# Altium footprint library BUCKCONVERTER-V1L11.PcbLib: 35 footprints (part 2 of 3)
Each footprint in its own frame and in the unit in brackets; x right, y up, seen from the top. Pads: shape width x height; smd on the part's side, far side on the other; paste and mask are expansions set on the pad; w line width, h text height; cw(c..) or ccw(c..) is an arc to the next point about the centre after c.
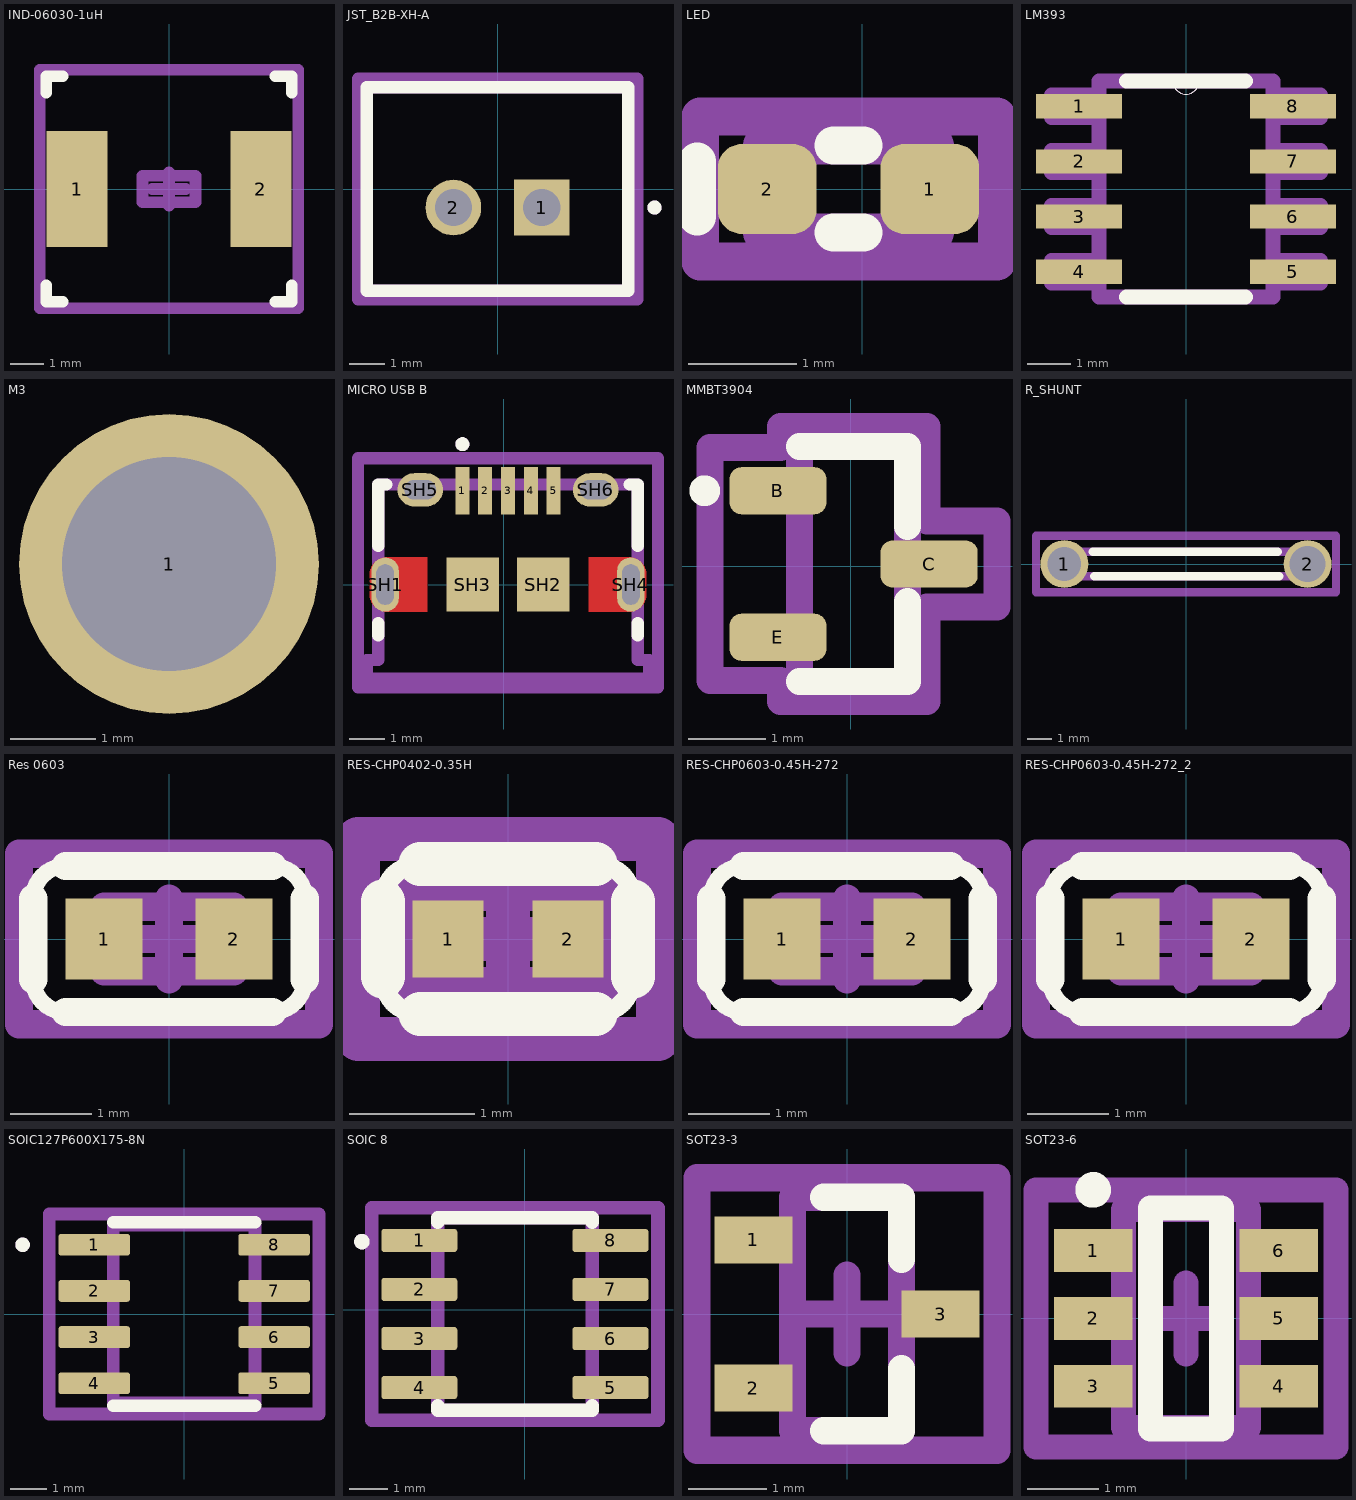
[diagram p1: the footprints below, top view; thin cyan lines are the x and y axes]

## IND-06030-1uH [mm]
pads (2):
  rect 1.85x3.5 smd: 1(-2.775,0) 2(2.775,0)
Top Overlay:
  lines w0.35: -3.7,-2.9 -3.7,-3.4 -3.2,-3.4 ; -3.7,2.9 -3.7,3.4 -3.2,3.4 ; 3.2,-3.4 3.7,-3.4 3.7,-2.9 ; 3.2,3.4 3.7,3.4 3.7,2.9
Top Courtyard:
  lines w0.35: -0.5,0 0.5,0 ; 0,-0.5 0,0.5 ; -3.9,-3.6 -3.9,3.6 3.9,3.6 3.9,-3.6 -3.9,-3.6
Top Value:
  text "'.Comment'" at -3.089,-0.4 h0.8
Top Assembly:
  text "'.Designator'" at -3.414,-0.266 h0.8
Mechanical 20:
  lines w0.35: -0.8,-0.4 0.8,-0.4 0.8,0.4 -0.8,0.4 -0.8,-0.4
  text "'.Designator'" at -3.414,-0.266 h0.8
3D body "IND-MOI0630-1R0.STEP": height 3.01, standoff -0.05, extent -3.65,-3.3 3.65,3.3

## JST_B2B-XH-A [mm]
height 7
pads (2):
  rect 1.575x1.575 / inner round 1.575 / far side rect 1.575x1.575 hole 1.05: 1(1.25,-0.525)
  round 1.575 hole 1.05: 2(-1.25,-0.525)
Top Overlay:
  circle w0.2: c4.44,-0.525 r0.1
  lines w0.35: -3.7,-2.875 -3.7,2.875 3.7,2.875 3.7,-2.875 -3.7,-2.875
Mechanical 13:
  circle w0.2: c4.44,-0.525 r0.1
  lines w0.35: -3.7,-2.875 -3.7,2.875 3.7,2.875 3.7,-2.875 -3.7,-2.875
Mechanical 15:
  lines w0.35: -3.95,-3.125 3.95,-3.125 3.95,3.125 -3.95,3.125 -3.95,-3.125

## LED [mm]
pads (2):
  rrect53% 0.91x0.83 smd: 1(0.623,0) 2(-0.877,0)
Top Overlay:
  lines w0.35: -1.524,-0.254 -1.524,0.254 ; -0.267,-0.4 0.013,-0.4 ; -0.267,0.4 0.013,0.4
Mechanical 13:
  lines w0.35: -0.927,-0.4 0.673,-0.4 0.673,0.4 -0.927,0.4 -0.927,-0.4
Mechanical 15:
  lines w0.35: -1.497,-0.67 1.243,-0.67 1.243,0.67 -1.497,0.67 -1.497,-0.67
3D body "step_temp.STEP": height 0.7, standoff 0, extent -0.927,-0.4 0.673,0.4

## LM393 [mil]
pads (8):
  rect 78x22 smd: 1(-97,75) 2(-97,25) 3(-97,-25) 4(-97,-75) 5(97,-75) 6(97,-25) 7(97,25) 8(97,75)
Top Overlay:
  lines w0: -12,98 ccw(c0,98) 12,98
  lines w13.78: -54,-98 54,-98 ; -54,98 -12,98 12,98 54,98
Mechanical 13:
  lines w0: -12,98 ccw(c0,98) 12,98
  lines w13.78: -122,-85 -79,-85 -79,-65 -122,-65 -122,-85 ; -122,-35 -79,-35 -79,-15 -122,-15 -122,-35 ; -122,15 -79,15 -79,35 -122,35 -122,15 ; -122,65 -79,65 -79,85 -122,85 -122,65 ; -79,-98 -79,98 -12,98 12,98 79,98 79,-98 -79,-98 ; 79,-85 122,-85 122,-65 79,-65 79,-85 ; 79,-35 122,-35 122,-15 79,-15 79,-35 ; 79,15 122,15 122,35 79,35 79,15 ; 79,65 122,65 122,85 79,85 79,65
3D body "step_temp.STEP": height 68.9, standoff 0, extent -118.11,-96.46 118.11,96.46

## M3 [mm]
pads (1):
  round 3.5 hole 2.5: 1(-21.01,90.163)

## MICRO USB B [mm]
pads (11):
  rect 0.4x1.35 smd: 1(-1.173,2.675) 2(-0.523,2.675) 3(0.127,2.675) 4(0.777,2.675) 5(1.427,2.675)
  oval 0.775x1.55 hole 0.5 slot 1.15 at 90 deg mask+0: SH1(-3.373,0) SH4(3.627,0)
  rect 1.5x1.55 smd: SH2(1.127,0) SH3(-0.873,0)
  oval 1.3x0.95 hole 0.55 slot 0.9 at 0 deg: SH5(-2.373,2.7) SH6(2.627,2.7)
Top Layer:
  region: -2.173,-0.775 -3.318,-0.775 -3.344,-0.774 -3.37,-0.772 -3.396,-0.769 -3.422,-0.764 -3.447,-0.758 -3.473,-0.751 -3.497,-0.742 -3.521,-0.732 -3.545,-0.721 -3.568,-0.708 -3.59,-0.694 -3.612,-0.68 -3.633,-0.664 -3.653,-0.647 -3.672,-0.629 -3.69,-0.61 -3.707,-0.59 -3.723,-0.569 -3.737,-0.547 -3.751,-0.525 -3.764,-0.502 -3.775,-0.478 -3.785,-0.454 -3.794,-0.43 -3.801,-0.404 -3.807,-0.379 -3.812,-0.353 -3.815,-0.327 -3.817,-0.301 -3.818,-0.275 -3.818,0.275 -3.817,0.301 -3.815,0.327 -3.812,0.353 -3.807,0.379 -3.801,0.404 -3.794,0.43 -3.785,0.454 -3.775,0.478 -3.764,0.502 -3.751,0.525 -3.737,0.547 -3.723,0.569 -3.707,0.59 -3.69,0.61 -3.672,0.629 -3.653,0.647 -3.633,0.664 -3.612,0.68 -3.59,0.694 -3.568,0.708 -3.545,0.721 -3.521,0.732 -3.497,0.742 -3.473,0.751 -3.447,0.758 -3.422,0.764 -3.396,0.769 -3.37,0.772 -3.344,0.774 -3.318,0.775 -2.173,0.775
  region: 3.598,0.774 3.624,0.772 3.65,0.769 3.676,0.764 3.701,0.758 3.727,0.751 3.751,0.742 3.775,0.732 3.799,0.721 3.822,0.708 3.844,0.694 3.866,0.68 3.887,0.664 3.907,0.647 3.926,0.629 3.944,0.61 3.961,0.59 3.977,0.569 3.991,0.547 4.005,0.525 4.018,0.502 4.029,0.478 4.039,0.454 4.048,0.43 4.055,0.404 4.061,0.379 4.066,0.353 4.069,0.327 4.071,0.301 4.072,0.275 4.072,-0.275 4.071,-0.301 4.069,-0.327 4.066,-0.353 4.061,-0.379 4.055,-0.404 4.048,-0.43 4.039,-0.454 4.029,-0.478 4.018,-0.502 4.005,-0.525 3.991,-0.547 3.977,-0.569 3.961,-0.59 3.944,-0.61 3.926,-0.629 3.907,-0.647 3.887,-0.664 3.866,-0.68 3.844,-0.694 3.822,-0.708 3.799,-0.721 3.775,-0.732 3.751,-0.742 3.727,-0.751 3.701,-0.758 3.676,-0.764 3.65,-0.769 3.624,-0.772 3.598,-0.774 3.572,-0.775 2.427,-0.775 2.427,0.775 3.572,0.775
Top Overlay:
  circle w0.2: c-1.173,4 r0.1
  lines w0.35: -3.573,-1.45 -3.573,-1.1 ; -3.573,1.1 -3.573,2.85 -3.343,2.85 ; 3.597,2.85 3.827,2.85 3.827,1.1 ; 3.827,-1.45 3.827,-1.1
Top Paste:
  region: -2.173,-0.775 -3.318,-0.775 -3.344,-0.774 -3.37,-0.772 -3.396,-0.769 -3.422,-0.764 -3.447,-0.758 -3.473,-0.751 -3.497,-0.742 -3.521,-0.732 -3.545,-0.721 -3.568,-0.708 -3.59,-0.694 -3.612,-0.68 -3.633,-0.664 -3.653,-0.647 -3.672,-0.629 -3.69,-0.61 -3.707,-0.59 -3.723,-0.569 -3.737,-0.547 -3.751,-0.525 -3.764,-0.502 -3.775,-0.478 -3.785,-0.454 -3.794,-0.43 -3.801,-0.404 -3.807,-0.379 -3.812,-0.353 -3.815,-0.327 -3.817,-0.301 -3.818,-0.275 -3.818,0.275 -3.817,0.301 -3.815,0.327 -3.812,0.353 -3.807,0.379 -3.801,0.404 -3.794,0.43 -3.785,0.454 -3.775,0.478 -3.764,0.502 -3.751,0.525 -3.737,0.547 -3.723,0.569 -3.707,0.59 -3.69,0.61 -3.672,0.629 -3.653,0.647 -3.633,0.664 -3.612,0.68 -3.59,0.694 -3.568,0.708 -3.545,0.721 -3.521,0.732 -3.497,0.742 -3.473,0.751 -3.447,0.758 -3.422,0.764 -3.396,0.769 -3.37,0.772 -3.344,0.774 -3.318,0.775 -2.173,0.775
  region: 3.598,0.774 3.624,0.772 3.65,0.769 3.676,0.764 3.701,0.758 3.727,0.751 3.751,0.742 3.775,0.732 3.799,0.721 3.822,0.708 3.844,0.694 3.866,0.68 3.887,0.664 3.907,0.647 3.926,0.629 3.944,0.61 3.961,0.59 3.977,0.569 3.991,0.547 4.005,0.525 4.018,0.502 4.029,0.478 4.039,0.454 4.048,0.43 4.055,0.404 4.061,0.379 4.066,0.353 4.069,0.327 4.071,0.301 4.072,0.275 4.072,-0.275 4.071,-0.301 4.069,-0.327 4.066,-0.353 4.061,-0.379 4.055,-0.404 4.048,-0.43 4.039,-0.454 4.029,-0.478 4.018,-0.502 4.005,-0.525 3.991,-0.547 3.977,-0.569 3.961,-0.59 3.944,-0.61 3.926,-0.629 3.907,-0.647 3.887,-0.664 3.866,-0.68 3.844,-0.694 3.822,-0.708 3.799,-0.721 3.775,-0.732 3.751,-0.742 3.727,-0.751 3.701,-0.758 3.676,-0.764 3.65,-0.769 3.624,-0.772 3.598,-0.774 3.572,-0.775 2.427,-0.775 2.427,0.775 3.572,0.775
Top Solder:
  region: -2.073,-0.875 -3.318,-0.875 -3.349,-0.874 -3.381,-0.872 -3.412,-0.868 -3.443,-0.862 -3.473,-0.855 -3.503,-0.846 -3.533,-0.835 -3.562,-0.823 -3.59,-0.81 -3.618,-0.795 -3.645,-0.778 -3.671,-0.76 -3.696,-0.741 -3.719,-0.721 -3.742,-0.699 -3.764,-0.676 -3.784,-0.653 -3.803,-0.628 -3.821,-0.602 -3.838,-0.575 -3.853,-0.547 -3.866,-0.519 -3.878,-0.49 -3.889,-0.46 -3.898,-0.43 -3.905,-0.4 -3.911,-0.369 -3.915,-0.338 -3.917,-0.306 -3.918,-0.275 -3.918,0.275 -3.917,0.306 -3.915,0.338 -3.911,0.369 -3.905,0.4 -3.898,0.43 -3.889,0.46 -3.878,0.49 -3.866,0.519 -3.853,0.547 -3.838,0.575 -3.821,0.602 -3.803,0.628 -3.784,0.653 -3.764,0.676 -3.742,0.699 -3.719,0.721 -3.696,0.741 -3.671,0.76 -3.645,0.778 -3.618,0.795 -3.59,0.81 -3.562,0.823 -3.533,0.835 -3.503,0.846 -3.473,0.855 -3.443,0.862 -3.412,0.868 -3.381,0.872 -3.349,0.874 -3.318,0.875 -2.073,0.875
  region: 3.603,0.874 3.635,0.872 3.666,0.868 3.697,0.862 3.727,0.855 3.757,0.846 3.787,0.835 3.816,0.823 3.844,0.81 3.872,0.795 3.899,0.778 3.925,0.76 3.95,0.741 3.973,0.721 3.996,0.699 4.018,0.676 4.038,0.653 4.057,0.628 4.075,0.602 4.092,0.575 4.107,0.547 4.12,0.519 4.132,0.49 4.143,0.46 4.152,0.43 4.159,0.4 4.165,0.369 4.169,0.338 4.171,0.306 4.172,0.275 4.172,-0.275 4.171,-0.306 4.169,-0.338 4.165,-0.369 4.159,-0.4 4.152,-0.43 4.143,-0.46 4.132,-0.49 4.12,-0.519 4.107,-0.547 4.092,-0.575 4.075,-0.602 4.057,-0.628 4.038,-0.653 4.018,-0.676 3.996,-0.699 3.973,-0.721 3.95,-0.741 3.925,-0.76 3.899,-0.778 3.872,-0.795 3.844,-0.81 3.816,-0.823 3.787,-0.835 3.757,-0.846 3.727,-0.855 3.697,-0.862 3.666,-0.868 3.635,-0.872 3.603,-0.874 3.572,-0.875 2.327,-0.875 2.327,0.875 3.572,0.875
Bottom Solder:
  drawing of 2 lines, arcs and shapes, not listed
Mechanical 13:
  circle w0.2: c-1.173,4 r0.1
  lines w0.35: -3.898,-2.68 4.152,-2.68 4.152,-2.15 3.827,-2.15 3.827,2.85 -3.573,2.85 -3.573,-1.45 -3.573,-2.15 -3.898,-2.15 -3.898,-2.68
Mechanical 15:
  lines w0.35: -4.148,-2.93 -4.148,3.6 4.402,3.6 4.402,-2.93 -4.148,-2.93
3D body "step_temp.STEP": height 2.67, standoff -0.6, extent -3.898,-2.68 4.152,2.85

## MMBT3904 [mm]
pads (3):
  rrect50% 1.26x0.61 smd: B(-0.944,0.976) C(1.016,0.026) E(-0.944,-0.924)
Top Overlay:
  circle w0.2: c-1.894,0.976 r0.1
  lines w0.35: -0.664,-1.499 0.736,-1.499 0.736,-0.463 ; -0.664,1.551 0.736,1.551 0.736,0.514
Mechanical 13:
  lines w0.35: -0.664,-1.499 -0.664,1.551 0.736,1.551 0.736,-1.499 -0.664,-1.499
Mechanical 15:
  lines w0.35: -1.824,-1.484 -1.824,1.536 -0.914,1.536 -0.914,1.806 0.986,1.806 0.986,0.586 1.896,0.586 1.896,-0.534 0.986,-0.534 0.986,-1.754 -0.914,-1.754 -0.914,-1.484 -1.824,-1.484
3D body "step_temp.STEP": height 1.15, standoff 0, extent -1.164,-1.424 1.236,1.476

## R_SHUNT [mm]
pads (2):
  round 2 hole 1.4: 1(-5.08,0)
  round 2 hole 1.5: 2(5.08,0)
Top Overlay:
  lines w0.35: -3.9,0.507 3.84,0.507 ; -3.84,-0.507 3.9,-0.507
Mechanical 13:
  lines w0.35: -5.605,-0.507 -5.605,0.507 5.605,0.507 5.605,-0.507 -5.605,-0.507
Mechanical 15:
  lines w0.35: -6.268,-1.188 -6.268,1.188 6.268,1.188 6.268,-1.188 -6.268,-1.188
3D body "d3082-05.SLDPRT": height 7, standoff -2, extent -5.459,-0.507 5.713,0.508

## Res 0603 [mm]
pads (2):
  rect 0.95x1 smd: 1(-0.8,0) 2(0.8,0)
Top Overlay:
  lines w0.2: -1.675,-0.5 ccw(c-1.275,-0.5) -1.275,-0.9 ; -1.675,0.5 cw(c-1.275,0.5) -1.275,0.9 ; 1.275,-0.9 ccw(c1.275,-0.5) 1.675,-0.5 ; 1.275,0.9 cw(c1.275,0.5) 1.675,0.5
  lines w0.35: -1.675,-0.5 -1.675,0.5 ; -1.275,-0.9 1.275,-0.9 ; -1.275,0.9 1.275,0.9 ; 1.675,-0.5 1.675,0.5
Top Value:
  lines w0.35: -0.8,-0.4 0.8,-0.4 0.8,0.4 -0.8,0.4 -0.8,-0.4
  text "'.Comment'" at -3.089,-0.4 h0.8
Top Assembly:
  lines w0.35: -0.8,-0.4 0.8,-0.4 0.8,0.4 -0.8,0.4 -0.8,-0.4
  text "'.Designator'" at -3.414,-0.266 h0.8
Bottom 3D Body:
  lines w0.35: -0.5,0 0.5,0 ; 0,-0.5 0,0.5 ; -1.85,-1.05 1.85,-1.05 1.85,1.05 -1.85,1.05 -1.85,-1.05
3D body "RES-0603-0.45H-101.STEP": height 0.48, standoff 0.03, extent -0.8,-0.4 0.8,0.4

## RES-CHP0402-0.35H [mm]
pads (2):
  rect 0.57x0.62 smd: 1(-0.48,0) 2(0.48,0)
Top Overlay:
  lines w0.152: -1,-0.3 ccw(c-0.7,-0.3) -0.7,-0.6 ; -1,0.3 cw(c-0.7,0.3) -0.7,0.6 ; 0.7,-0.6 ccw(c0.7,-0.3) 1,-0.3 ; 0.7,0.6 cw(c0.7,0.3) 1,0.3
  lines w0.35: -1,-0.3 -1,0.3 ; -0.7,-0.6 0.7,-0.6 ; -0.7,0.6 0.7,0.6 ; 1,-0.3 1,0.3
Top Courtyard:
  lines w0.35: -0.5,0 0.5,0 ; 0,-0.5 0,0.5 ; -1.2,-0.8 -1.2,0.8 1.2,0.8 1.2,-0.8 -1.2,-0.8
Top Value:
  lines w0.35: -0.8,-0.4 0.8,-0.4 0.8,0.4 -0.8,0.4 -0.8,-0.4
  text "'.Comment'" at -3.089,-0.4 h0.8
Top Assembly:
  lines w0.35: -0.8,-0.4 0.8,-0.4 0.8,0.4 -0.8,0.4 -0.8,-0.4
  text "'.Designator'" at -3.414,-0.266 h0.8
Mechanical 20:
  lines w0.35: -0.8,-0.4 0.8,-0.4 0.8,0.4 -0.8,0.4 -0.8,-0.4
  text "'.Designator'" at -3.414,-0.266 h0.8
3D body "RES-0402-0.35H_N.STEP": height 0.35, standoff 0, extent -0.48,-0.25 0.52,0.25

## RES-CHP0603-0.45H-272 [mm]
pads (2):
  rect 0.95x1 smd: 1(-0.8,0) 2(0.8,0)
Top Overlay:
  lines w0.2: -1.675,-0.5 ccw(c-1.275,-0.5) -1.275,-0.9 ; -1.675,0.5 cw(c-1.275,0.5) -1.275,0.9 ; 1.275,-0.9 ccw(c1.275,-0.5) 1.675,-0.5 ; 1.275,0.9 cw(c1.275,0.5) 1.675,0.5
  lines w0.35: -1.675,-0.5 -1.675,0.5 ; -1.275,-0.9 1.275,-0.9 ; -1.275,0.9 1.275,0.9 ; 1.675,-0.5 1.675,0.5
Top Courtyard:
  lines w0.35: -0.5,0 0.5,0 ; 0,-0.5 0,0.5 ; -1.85,-1.05 -1.85,1.05 1.85,1.05 1.85,-1.05 -1.85,-1.05
Top Value:
  lines w0.35: -0.8,-0.4 -0.8,0.4 0.8,0.4 0.8,-0.4 -0.8,-0.4
  text "'.Comment'" at -3.089,-0.4 h0.8
Top Assembly:
  lines w0.35: -0.8,-0.4 -0.8,0.4 0.8,0.4 0.8,-0.4 -0.8,-0.4
  text "'.Designator'" at -3.414,-0.266 h0.8
Mechanical 20:
  lines w0.35: -0.8,-0.4 -0.8,0.4 0.8,0.4 0.8,-0.4 -0.8,-0.4
  text "'.Designator'" at -3.414,-0.266 h0.8
3D body "RES-0603-0.45H-272.STEP": height 0.48, standoff 0.03, extent -0.8,-0.4 0.8,0.4

## RES-CHP0603-0.45H-272_2 [mm]
pads (2):
  rect 0.95x1 smd: 1(-0.8,0) 2(0.8,0)
Top Overlay:
  lines w0.2: -1.675,-0.5 ccw(c-1.275,-0.5) -1.275,-0.9 ; -1.675,0.5 cw(c-1.275,0.5) -1.275,0.9 ; 1.275,-0.9 ccw(c1.275,-0.5) 1.675,-0.5 ; 1.275,0.9 cw(c1.275,0.5) 1.675,0.5
  lines w0.35: -1.675,-0.5 -1.675,0.5 ; -1.275,-0.9 1.275,-0.9 ; -1.275,0.9 1.275,0.9 ; 1.675,-0.5 1.675,0.5
Top Courtyard:
  lines w0.35: -0.5,0 0.5,0 ; 0,-0.5 0,0.5 ; -1.85,-1.05 1.85,-1.05 1.85,1.05 -1.85,1.05 -1.85,-1.05
Top Value:
  lines w0.35: -0.8,-0.4 0.8,-0.4 0.8,0.4 -0.8,0.4 -0.8,-0.4
  text "'.Comment'" at -3.089,-0.4 h0.8
Top Assembly:
  lines w0.35: -0.8,-0.4 0.8,-0.4 0.8,0.4 -0.8,0.4 -0.8,-0.4
  text "'.Designator'" at -3.414,-0.266 h0.8
Mechanical 20:
  lines w0.35: -0.8,-0.4 0.8,-0.4 0.8,0.4 -0.8,0.4 -0.8,-0.4
  text "'.Designator'" at -3.414,-0.266 h0.8
3D body "RES-0603-0.45H-272.STEP": height 0.48, standoff 0.03, extent -0.8,-0.4 0.8,0.4

## SOIC127P600X175-8N [mm]
pads (8):
  rrect25% 1.97x0.6 smd: 1(-2.475,1.905) 2(-2.475,0.635) 3(-2.475,-0.635) 4(-2.475,-1.905) 5(2.475,-1.905) 6(2.475,-0.635) 7(2.475,0.635) 8(2.475,1.905)
Top Overlay:
  circle w0.2: c-4.445,1.905 r0.1
  lines w0.35: -1.95,-2.525 1.95,-2.525 ; -1.95,2.525 1.95,2.525
Mechanical 13:
  circle w0.2: c-4.445,1.905 r0.1
  lines w0.35: -1.95,-2.45 1.95,-2.45 1.95,2.45 -1.95,2.45 -1.95,-2.45
Mechanical 15:
  lines w0.35: -3.71,-2.75 3.71,-2.75 3.71,2.75 -3.71,2.75 -3.71,-2.75
3D body "step_temp.STEP": height 1.75, standoff 0, extent -3.036,-2.435 2.964,2.465

## SOIC 8 [mm]
pads (8):
  rrect25% 1.97x0.6 smd: 1(-2.728,1.794) 2(-2.728,0.524) 3(-2.728,-0.746) 4(-2.728,-2.016) 5(2.222,-2.016) 6(2.222,-0.746) 7(2.222,0.524) 8(2.222,1.794)
Top Overlay:
  circle w0.2: c-4.217,1.764 r0.1
  lines w0.35: -2.253,-2.491 -2.253,-2.611 1.747,-2.611 1.747,-2.491 ; -2.253,2.269 -2.253,2.389 1.747,2.389 1.747,2.269
Mechanical 13:
  circle w0.2: c-4.217,1.764 r0.1
  lines w0.35: -2.253,-2.611 -2.253,2.389 1.747,2.389 1.747,-2.611 -2.253,-2.611
Mechanical 15:
  lines w0.35: -3.963,-2.861 -3.963,2.639 3.457,2.639 3.457,-2.861 -3.963,-2.861
3D body "step_temp.STEP": height 1.75, standoff 0, extent -3.253,-2.561 2.747,2.339

## SOT23-3 [mm]
pads (3):
  rect 1x0.6 smd: 1(-1.2,0.95) 2(-1.2,-0.95) 3(1.2,0)
Top Overlay:
  lines w0.35: -0.3,-1.5 0.7,-1.5 0.7,-0.7 ; -0.3,1.5 0.7,1.5 0.7,0.7
Top Courtyard:
  lines w0.35: -0.5,0 0.5,0 ; 0,-0.5 0,0.5 ; -1.925,-1.75 1.925,-1.75 1.925,1.75 -1.925,1.75 -1.925,-1.75
Top Assembly:
  lines w0.35: -0.7,-1.5 0.7,-1.5 0.7,1.5 -0.7,1.5 -0.7,-1.5
3D body "SOT23-3.step": height 1.1, standoff 0, extent -1.238,-1.494 1.262,1.506

## SOT23-6 [mm]
pads (6):
  rect 1.1x0.6 smd: 1(-1.3,0.95) 2(-1.3,0) 3(-1.3,-0.95) 4(1.3,-0.95) 5(1.3,0) 6(1.3,0.95)
Top Overlay:
  circle w0.25: c-1.3,1.8 r0.125
  lines w0.35: -0.5,-1.55 -0.5,1.55 0.5,1.55 0.5,-1.55 -0.5,-1.55
Top Courtyard:
  lines w0.35: -0.5,0 0.5,0 ; 0,-0.5 0,0.5 ; -2.1,-1.8 2.1,-1.8 2.1,1.8 -2.1,1.8 -2.1,-1.8
Top Assembly:
  lines w0.35: -0.875,-1.525 0.875,-1.525 0.875,1.525 -0.875,1.525 -0.875,-1.525
3D body "sot23-6.STEP": height 1.27, standoff 0.02, extent -1.399,-1.449 1.399,1.449